# Altium schematic symbol library MAX395.SchLib: 2 symbols
Pins are listed as number, name and electrical type; pins without a type are passive.

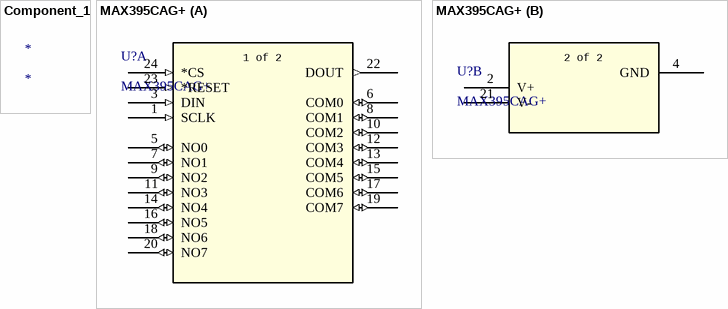
[diagram p0: symbols Component_1 to MAX395CAG+]

## Component_1
designator *

## MAX395CAG+
designator U?
No Description Available; SourceLibrary: Maxim_2014-05-21; Built_By: EMA_UL_Team; Vendor: Maxim Integrated Products; Manufacturer_Part_Number: MAX395CAG+; Copyright: Copyright (C) 2018 Accelerated Designs. All rights reserved; RefDes: RefDes; Type: DEV
footprint 21-0056C_24_MXM
part A pins: 1 SCLK (in), 3 DIN (in), 5 NO0 (io), 6 COM0 (io), 7 NO1 (io), 8 COM1 (io), 9 NO2 (io), 10 COM2 (io), 11 NO3 (io), 12 COM3 (io), 13 COM4 (io), 14 NO4 (io), 15 COM5 (io), 16 NO5 (io), 17 COM6 (io), 18 NO6 (io), 19 COM7 (io), 20 NO7 (io), 22 DOUT (out), 23 *RESET (in), 24 *CS (in)
part B pins: 2 V+ (power), 4 GND (power), 21 V- (power)
part A text: 1 of 2
part B text: 2 of 2